# Altium schematic symbol library ВП1_2.Schlib: 1 symbol
Pins are listed as number, name and electrical type; pins without a type are passive.

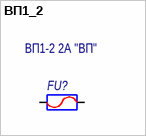
[diagram p0: symbol ВП1_2]

## ВП1_2
designator FU?, comment ВП1-2 2А "ВП"
Предохранитель плавкий; Наименование: ВП1-2 2А «ВП»; Назначение: Предохранитель плавкий
footprint Fuse1
pins: 1, 2